# EAGLE library part 182-009-213R (library con-subd)
CONN DB9 FEMALE .318" R/A NICKEL
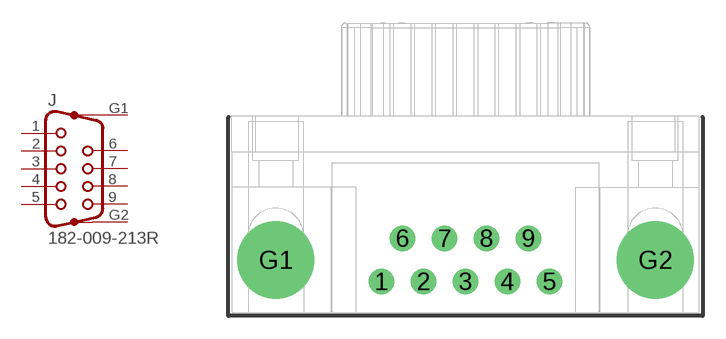
[diagram p87: symbol with the pads of 182-009-213R; footprint 182-009-213R]

Designator prefix J

## 182-009-213R  [182-009-213R]
1  1  pas
2  2  pas
3  3  pas
4  4  pas
5  5  pas
6  6  pas
7  7  pas
8  8  pas
9  9  pas
G1  G1  pas
G2  G2  pas

## Footprint 182-009-213R (pad centres in mm)
NORCOMP Right Angle D-Sub Connector FEMALE 182 Economy Series (.318" Footprint)
drill 1.016 pad 1.676: 1 -5.54,-1.42; 2 -2.77,-1.42; 3 0,-1.42; 4 2.77,-1.42; 5 5.54,-1.42; 6 -4.155,1.42; 7 -1.385,1.42; 8 1.385,1.42; 9 4.155,1.42
drill 3.251 pad 5.08: G1 -12.495,0; G2 12.495,0